# Altium footprint library ArduMan_Components.PcbLib: 17 footprints (part 1 of 2)
Each footprint in its own frame and in the unit in brackets; x right, y up, seen from the top. Pads: shape width x height; smd on the part's side, far side on the other; paste and mask are expansions set on the pad; w line width, h text height; cw(c..) or ccw(c..) is an arc to the next point about the centre after c.
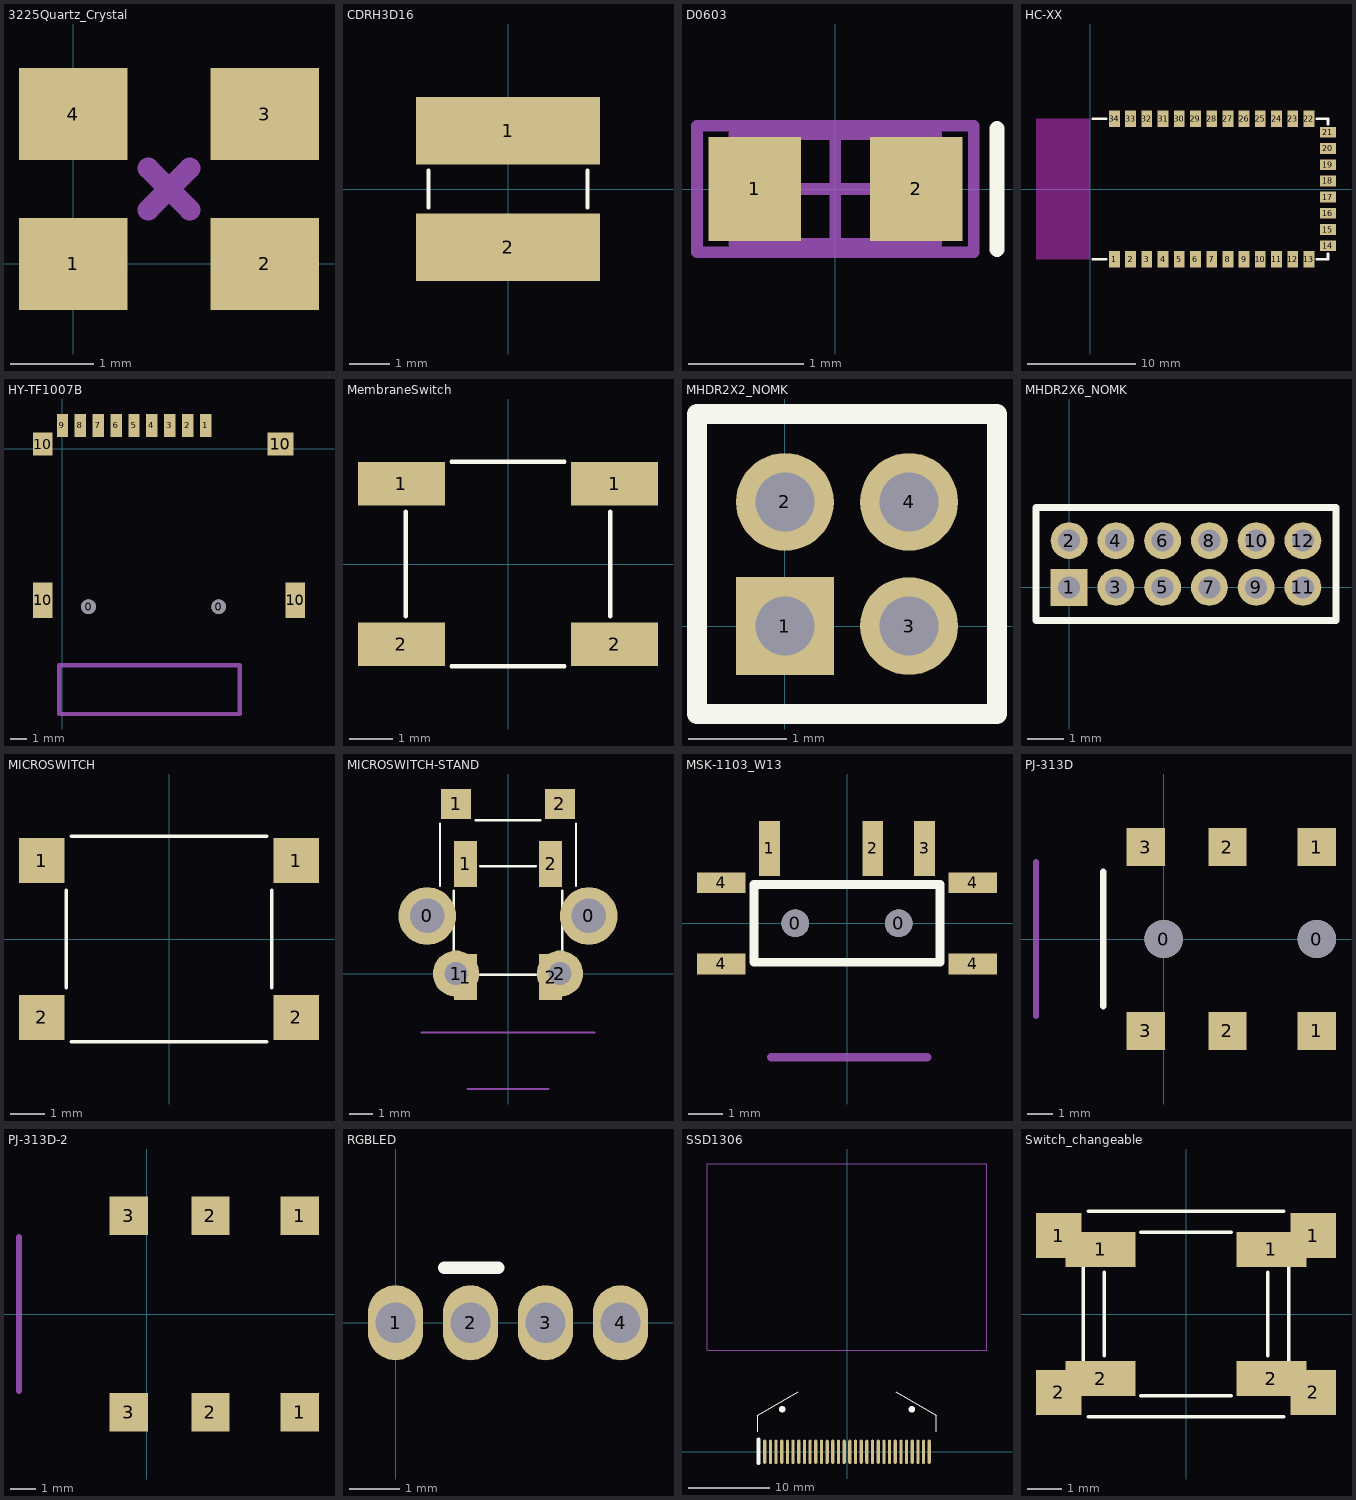
[diagram p0: the footprints below, top view; thin cyan lines are the x and y axes]

## 3225Quartz_Crystal [mm]
pads (4):
  rect 1.3x1.1 smd: 1(0,0) 2(2.3,0) 3(2.3,1.8) 4(0,1.8)
Mechanical 13:
  lines w0.254: 0.9,0.65 1.4,1.15 ; 0.9,1.15 1.4,0.65
3D body: height 0.6, standoff 0, extent -0.45,-0.35 2.75,2.15

## CDRH3D16 [mm] "Inductor"
pads (2):
  rect 4.5x1.65 smd: 1(0,1.425) 2(0,-1.425)
Top Overlay:
  lines w0.1: -1.95,-0.45 -1.95,0.45 ; 1.95,-0.45 1.95,0.45
3D body: height 2, standoff 0, extent -2,-2 2,2

## D0603 [mm] "Diode, Body 1.6x0.8mm"
height 1.3
pads (2):
  rect 0.8x0.9 smd: 1(-0.7,0) 2(0.7,0)
Top Overlay:
  lines w0.127: 1.4,-0.525 1.4,0.525
Mechanical 13:
  lines w0.1: -0.875,-0.475 -0.875,0.475 0.875,0.475 0.875,-0.475 -0.875,-0.475
Mechanical 15:
  lines w0.1: -0.475,0 0.475,0 ; 0,-0.475 0,0.475 ; -1.2,-0.55 -1.2,0.55 1.2,0.55 1.2,-0.55 -1.2,-0.55
3D body: height 1.3, standoff 0, extent -0.875,-0.475 0.875,0.475

## HC-XX [mm] "HC Series Bluetooth Module"
height 2
pads (34):
  rect 1x1.5 smd: 1(2.25,-6.5) 2(3.75,-6.5) 3(5.25,-6.5) 4(6.75,-6.5) 5(8.25,-6.5) 6(9.75,-6.5) 7(11.25,-6.5) 8(12.75,-6.5) 9(14.25,-6.5) 10(15.75,-6.5) 11(17.25,-6.5) 12(18.75,-6.5) 13(20.25,-6.5) 22(20.25,6.5) 23(18.75,6.5) 24(17.25,6.5) 25(15.75,6.5) 26(14.25,6.5) 27(12.75,6.5) 28(11.25,6.5) 29(9.75,6.5) 30(8.25,6.5) 31(6.75,6.5) 32(5.25,6.5) 33(3.75,6.5) 34(2.25,6.5)
  rect 1.5x1 smd: 14(22,-5.25) 15(22,-3.75) 16(22,-2.25) 17(22,-0.75) 18(22,0.75) 19(22,2.25) 20(22,3.75) 21(22,5.25)
Top Overlay:
  lines w0.254: 0.25,-6.5 1.5,-6.5 ; 0.25,6.5 1.5,6.5 ; 21,-6.5 22,-6.5 22,-6 ; 21,6.5 22,6.5 22,6
Keep-Out Layer:
  rectangle: -5,-6.5 0,6.5
3D body: height 0.25, standoff 0, extent 1.25,-8 1.25,-8
3D body: height 0.25, standoff 0, extent -5,6.5 -5,6.5
3D body: height 0.25, standoff 0, extent -5,-6.5 22,6.5

## HY-TF1007B [mm] "Micro SD Card Slot"
pads (15):
  round 0.9 hole 0.9 unplated mask+0: 0(1.6,-9.7) 0(9.6,-9.7)
  rect 0.7x1.4 smd: 1(8.8,1.45) 2(7.7,1.45) 3(6.6,1.45) 4(5.5,1.45) 5(4.4,1.45) 6(3.3,1.45) 7(2.2,1.45) 8(1.1,1.45) 9(0,1.45)
  rect 1.2x2.2 smd: 10(-1.2,-9.3) 10(14.3,-9.3)
  rect 1.2x1.4 smd: 10(-1.2,0.3)
  rect 1.6x1.4 smd: 10(13.4,0.3)
Mechanical 15:
  lines w0.254: -0.2,-16.3 10.9,-16.3 10.9,-13.3 -0.2,-13.3 -0.2,-16.3
3D body "HY-TF1007B.SLDPRT": height 1.85, standoff -0.59, extent -0.8,-16.3 13.9,1.3

## MembraneSwitch [mm]
pads (4):
  rect 2x1 smd: 1(-2.45,1.85) 1(2.45,1.85) 2(-2.45,-1.85) 2(2.45,-1.85)
Top Overlay:
  lines w0.1: -2.35,-1.2 -2.35,1.2 ; -1.3,-2.35 1.3,-2.35 ; -1.3,2.35 1.3,2.35 ; 2.35,-1.2 2.35,1.2
3D body "MembraneSwitch.SLDPRT": height 0.75, standoff 0, extent -3.2,-2.4 3.2,2.4

## MHDR2X2_NOMK [mm] "Connector; Header; 2x2 Position"
pads (4):
  rect 1x1 hole 0.6: 1(0,0)
  round 1 hole 0.6: 2(0,1.27) 3(1.27,0) 4(1.27,1.27)
Top Overlay:
  lines w0.2: -0.9,-0.9 2.17,-0.9 2.17,2.17 -0.9,2.17 -0.9,-0.9

## MHDR2X6_NOMK [mm] "Connector; Header; 6x2 Position"
pads (12):
  rect 1x1 hole 0.6: 1(0,0)
  round 1 hole 0.6: 2(0,1.27) 3(1.27,0) 4(1.27,1.27) 5(2.54,0) 6(2.54,1.27) 7(3.81,0) 8(3.81,1.27) 9(5.08,0) 10(5.08,1.27) 11(6.35,0) 12(6.35,1.27)
Top Overlay:
  lines w0.2: -0.9,-0.9 7.25,-0.9 7.25,2.17 -0.9,2.17 -0.9,-0.9

## MICROSWITCH [mm] "Micro Switch"
pads (4):
  rect 1.3x1.3 smd: 1(-3.65,2.25) 1(3.65,2.25) 2(-3.65,-2.25) 2(3.65,-2.25)
Top Overlay:
  lines w0.1: -2.95,-1.4 -2.95,1.4 ; -2.8,-2.95 2.8,-2.95 ; -2.8,2.95 2.8,2.95 ; 2.95,-1.4 2.95,1.4
3D body "MicroSwitch.SLDPRT": height 6, standoff 0, extent -4,-3 4,3

## MICROSWITCH-STAND [mm] "Micro Switch, Standing"
pads (10):
  round 2.5 hole 1.5: 0(-3.5,2.5) 0(3.5,2.5)
  round 2 hole 1: 1(-2.25,0) 2(2.25,0)
  rect 1.3x1.3 smd: 1(-2.25,7.35) 2(2.25,7.35)
  rect 1x2 smd: 1(-1.85,-0.15) 1(-1.85,4.75) 2(1.85,-0.15) 2(1.85,4.75)
Top Overlay:
  lines w0.1: -2.95,3.8 -2.95,6.5 ; -2.35,1 -2.35,3.6 ; -1.4,6.65 1.4,6.65 ; -1.2,-0.05 1.2,-0.05 ; -1.2,4.65 1.2,4.65 ; 2.35,1 2.35,3.6 ; 2.95,3.8 2.95,6.5
Mechanical 15:
  lines w0.1: -3.75,-2.55 3.75,-2.55 ; -1.75,-5 1.75,-5
3D body "MicroSwitch-Stand.SLDPRT": height 7, standoff -3.5, extent -4.249,-5 4.249,4.45

## MSK-1103_W13 [mm] "Switch"
pads (9):
  round 0.8 hole 0.8 unplated mask+0: 0(-1.5,0) 0(1.5,0)
  rect 0.6x1.6 smd: 1(-2.25,2.175) 2(0.75,2.175) 3(2.25,2.175)
  rect 1.4x0.6 smd: 4(-3.65,-1.175) 4(-3.65,1.175) 4(3.65,-1.175) 4(3.65,1.175)
Top Overlay:
  lines w0.254: -2.7,-1.125 2.7,-1.125 2.7,1.125 -2.7,1.125 -2.7,-1.125
Mechanical 15:
  lines w0.254: -2.2,-3.88 2.33,-3.88
3D body "MSK-1103_W13.SLDPRT": height 1.4, standoff -0.5, extent -3.9,-3.875 3.9,2.375

## PJ-313D [mm] "Headphone Jack"
pads (8):
  round 1.5 hole 1.5 mask+0: 0(0,0) 0(6,0)
  rect 1.5x1.5 smd: 1(6,-3.6) 1(6,3.6) 2(2.5,-3.6) 2(2.5,3.6) 3(-0.7,-3.6) 3(-0.7,3.6)
Top Overlay:
  lines w0.254: -2.375,-2.625 -2.375,2.625
Mechanical 15:
  lines w0.254: -5,-3 -5,3
3D body "PJ-313D.SLDPRT": height 5, standoff -0.5, extent -5,-4.2 9,4.2

## PJ-313D-2 [mm] "Headphone Jack"
pads (6):
  rect 1.5x1.5 smd: 1(6,-3.85) 1(6,3.85) 2(2.5,-3.85) 2(2.5,3.85) 3(-0.7,-3.85) 3(-0.7,3.85)
Mechanical 15:
  lines w0.254: -5,-3 -5,3
3D body "PJ-313D.SLDPRT": height 0.7, standoff -4.8, extent -5,-4.2 9,4.2

## RGBLED [mm] "RGB LED"
pads (4):
  oval 1.1x1.5 hole 0.8: 1(0,0) 2(1.5,0) 3(3,0) 4(4.5,0)
Top Overlay:
  lines w0.254: 0.975,1.1 2.05,1.1

## SSD1306 [mm] "OLED Controller"
pads (30):
  oval 0.4x3 smd: 1(-10.15,0) 2(-9.45,0) 3(-8.75,0) 4(-8.05,0) 5(-7.35,0) 6(-6.65,0) 7(-5.95,0) 8(-5.25,0) 9(-4.55,0) 10(-3.85,0) 11(-3.15,0) 12(-2.45,0) 13(-1.75,0) 14(-1.05,0) 15(-0.35,0) 16(0.35,0) 17(1.05,0) 18(1.75,0) 19(2.45,0) 20(3.15,0) 21(3.85,0) 22(4.55,0) 23(5.25,0) 24(5.95,0) 25(6.65,0) 26(7.35,0) 27(8.05,0) 28(8.75,0) 29(9.45,0) 30(10.15,0)
Top Overlay:
  circle w0.4: c8,5.25 r0.2
  circle w0.4: c-8,5.25 r0.2
  lines w0.127: -11,2.5 -11,4.5 -6,7.387 ; 6,7.387 11,4.5 11,2.5
  lines w0.5: -10.912,-1.397 -10.912,1.524
Mechanical 15:
  lines w0.1: -17.25,12.5 -17.25,35.5 17.25,35.5 17.25,12.5 -17.25,12.5

## Switch_changeable [mm]
pads (8):
  rect 1.3x1.3 smd: 1(-3.65,2.25) 1(3.65,2.25) 2(-3.65,-2.25) 2(3.65,-2.25)
  rect 2x1 smd: 1(-2.45,1.85) 1(2.45,1.85) 2(-2.45,-1.85) 2(2.45,-1.85)
Top Overlay:
  lines w0.1: -2.95,-1.4 -2.95,1.4 ; -2.8,-2.95 2.8,-2.95 ; -2.8,2.95 2.8,2.95 ; -2.35,-1.2 -2.35,1.2 ; -1.3,-2.35 1.3,-2.35 ; -1.3,2.35 1.3,2.35 ; 2.35,-1.2 2.35,1.2 ; 2.95,-1.4 2.95,1.4